# Altium integrated library 51dpj.IntLib: 8 symbols
Pins are listed as number, name and electrical type; pins without a type are passive.

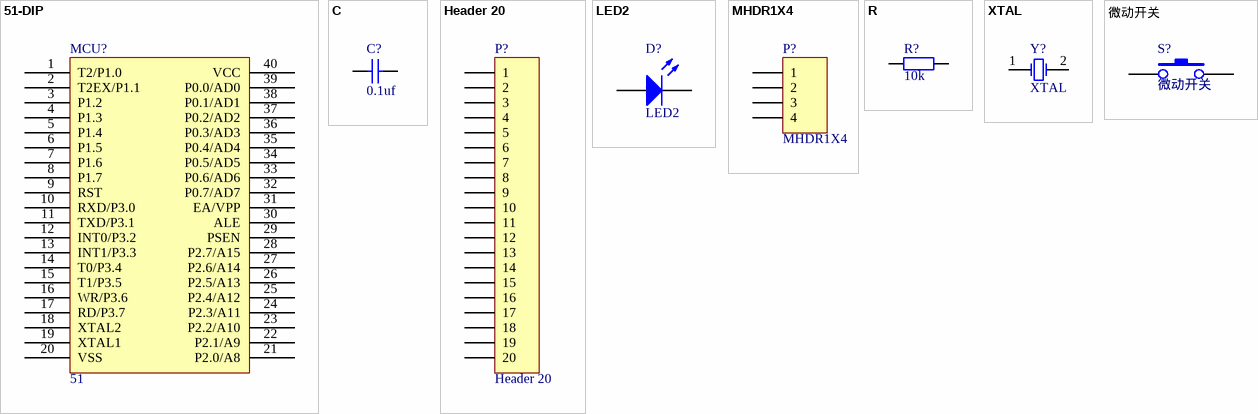
[diagram p0: symbols 51-DIP to 微动开关]

## 51-DIP
designator MCU?, comment 51
footprint 51-DIP40
pins: 1 T2/P1.0, 2 T2EX/P1.1, 3 P1.2, 4 P1.3, 5 P1.4, 6 P1.5, 7 P1.6, 8 P1.7, 9 RST, 10 RXD/P3.0, 11 TXD/P3.1, 12 INT0/P3.2, 13 INT1/P3.3, 14 T0/P3.4, 15 T1/P3.5, 16 WR/P3.6, 17 RD/P3.7, 18 XTAL2, 19 XTAL1, 20 VSS, 21 P2.0/A8, 22 P2.1/A9, 23 P2.2/A10, 24 P2.3/A11, 25 P2.4/A12, 26 P2.5/A13, 27 P2.6/A14, 28 P2.7/A15, 29 PSEN, 30 ALE, 31 EA/VPP, 32 P0.7/AD7, 33 P0.6/AD6, 34 P0.5/AD5, 35 P0.4/AD4, 36 P0.3/AD3, 37 P0.2/AD2, 38 P0.1/AD1, 39 P0.0/AD0, 40 VCC

## C
designator C?, comment 0.1uf
电容
footprint 2220
footprint 1812
footprint 1210
footprint 1206
footprint 0805
footprint 0603
footprint RB.3/.6
footprint RAD0.2
footprint RAD0.1
footprint RB.1/.2
footprint RB.15/.3
footprint RB.2/.4
footprint RB.4/.8
pins: 1, 2

## Header 20
designator P?
Header, 20-Pin; LatestRevisionDate: 17-Jul-2002; LatestRevisionNote: Re-released for DXP Platform.; Publisher: Altium Limited
footprint HDR1X20 (Connector; Header; 20 Position)
signal-integrity model Connector
pins: 1, 2, 3, 4, 5, 6, 7, 8, 9, 10, 11, 12, 13, 14, 15, 16, 17, 18, 19, 20

## LED2
designator D?
Typical RED, GREEN, YELLOW, AMBER GaAs LED; Published: 8-Jun-2000; LatestRevisionDate: 17-Jul-2002; LatestRevisionNote: Re-released for DXP Platform.; PackageVersion: Feb-2002; PackageReference: 3.2X1.6X1.1; Publisher: Altium Limited; PackageDescription: SM LED; 2 Flat Leads
footprint 3.2X1.6X1.1 (SMT LED; 2 Flat Leads)
simulation model LED2 (Diode)
pins: 1 A, 2 K

## MHDR1X4
designator P?
Header, 4-Pin; LatestRevisionDate: 17-Jul-2002; LatestRevisionNote: Re-released for DXP Platform.; Publisher: Altium Limited
footprint MHDR1X4 (Connector; Header; 4 Position)
signal-integrity model Connector
pins: 1, 2, 3, 4

## R
designator R?, comment 10k
电阻
footprint 2220
footprint 1812
footprint 1210
footprint 1206
footprint 0805
footprint 0603
footprint AXIAL0.4
footprint AXIAL0.5
pins: 1, 2

## XTAL
designator Y?
晶振
footprint XTAL-BCY-F2/Z13 (Quartz Crystal, SM; 2 Leads; Body 11.4 x 4.8 x 5 mm (LxWxH))
footprint XTAL1
footprint XTAL32-1
footprint XTAL32-2
footprint XTAL32-3
footprint XTAL-CS20
footprint XTAL-HC49US1
footprint XTAL-HC49US2
footprint XTAL-HCM49
footprint XTAL-OCX7050
footprint XTAL-OCX7050 - M (斜角标记)
footprint XTAL-PIN4
footprint XTAL-SG3032JC
footprint XTAL-OCX5032 (四角贴片晶振)
pins: 1, 2

## 微动开关
designator S?
footprint KEY
pins: 1, 2